# Altium footprint library LGA-8-MPL3115A2.PcbLib: 1 footprints
Each footprint in its own frame and in the unit in brackets; x right, y up, seen from the top. Pads: shape width x height; smd on the part's side, far side on the other; paste and mask are expansions set on the pad; w line width, h text height; cw(c..) or ccw(c..) is an arc to the next point about the centre after c.
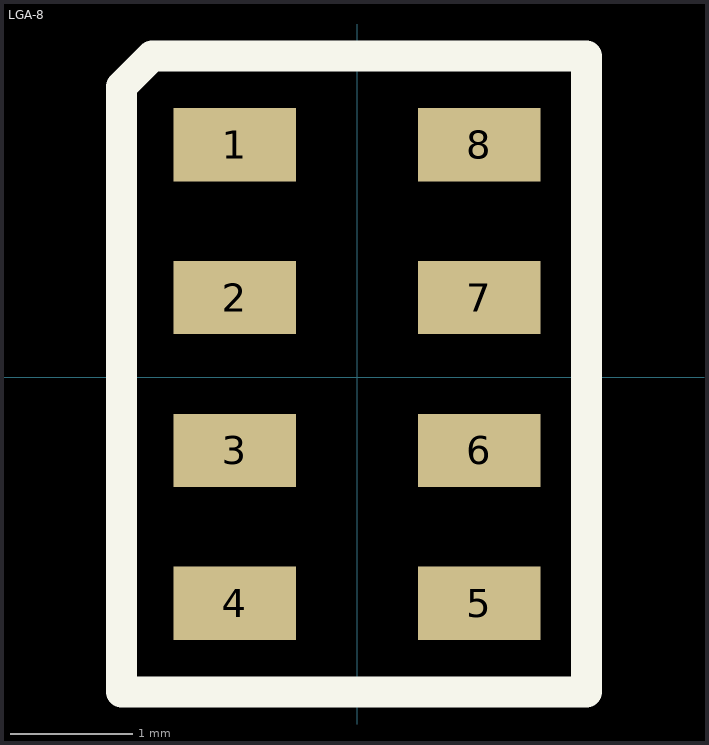
[diagram p0: the footprint, top view; thin cyan lines are the x and y axes]

## LGA-8 [mm] "LGA-8 package for sensor MPL3115A2"
height 1.2
pads (8):
  rect 1x0.6 smd: 1(-1,1.9) 2(-1,0.65) 3(-1,-0.6) 4(-1,-1.85) 5(1,-1.85) 6(1,-0.6) 7(1,0.65) 8(1,1.9)
Top Overlay:
  lines w0.254: -1.925,-2.575 -1.925,2.375 -1.675,2.625 -1.65,2.625 1.875,2.625 1.875,-2.575 -1.925,-2.575
3D body: height 1.1, standoff 0, extent -1.5,-2.5 1.5,2.5